# Altium schematic symbol library HMC540SLP3E.SchLib: 1 symbol
Pins are listed as number, name and electrical type; pins without a type are passive.

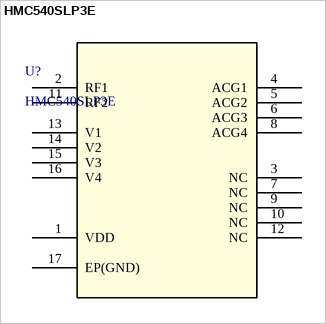
[diagram p0: symbol HMC540SLP3E]

## HMC540SLP3E
designator U?
1 dB LSB Silicon MMIC 4-Bit Digital Positive Control Attenuator, 0.1 - 8 GHz; Manufacturer_Name: Analog Devices Inc; Copyright: Copyright (C) 2026 Ultra Librarian. All rights reserved.; Manufacturer_Part_Number: HMC540SLP3E; Datasheet: https://www.analog.com/media/en/technical-documentation/data-sheets/hmc540s.pdf; RefDes: RefDes; Type: Type
footprint HCP_16_1_ADI
pins: 1 VDD, 2 RF1, 3 NC, 4 ACG1, 5 ACG2, 6 ACG3, 7 NC, 8 ACG4, 9 NC, 10 NC, 11 RF2, 12 NC, 13 V1, 14 V2, 15 V3, 16 V4, 17 EP(GND)